# EAGLE library part SX1257 (library LoRa Gateway)
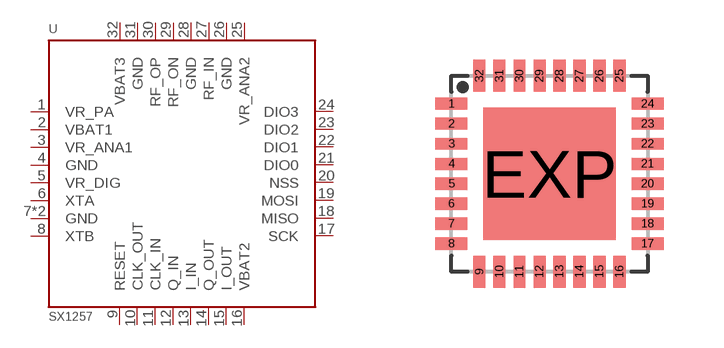
[diagram p6: symbol with the pads of QFN32; footprint QFN32]

Designator prefix U

## SX1257  [QFN32]
1  VR_PA
2  VBAT1
3  VR_ANA1
4  GND
5  VR_DIG
6  XTA
7  GND
8  XTB
9  RESET
10  CLK_OUT
11  CLK_IN
12  Q_IN
13  I_IN
14  Q_OUT
15  I_OUT
16  VBAT2
17  SCK
18  MISO
19  MOSI
20  NSS
21  DIO0
22  DIO1
23  DIO2
24  DIO3
25  VR_ANA2
26  GND
27  RF_IN
28  GND
29  RF_ON
30  RF_OP
31  GND
32  VBAT3
EXP  GND

## Footprint QFN32 (pad centres in mm)
QFN 32 5 x 5 mm Source: http://datasheets.maxim-ic.com/en/ds/MAX7042.pdf
smd 0.8 x 0.3: 1 -2.45,1.75; 2 -2.45,1.25; 3 -2.45,0.75; 4 -2.45,0.25; 5 -2.45,-0.25; 6 -2.45,-0.75; 7 -2.45,-1.25; 8 -2.45,-1.75; 17 2.45,-1.75; 18 2.45,-1.25; 19 2.45,-0.75; 20 2.45,-0.25; 21 2.45,0.25; 22 2.45,0.75; 23 2.45,1.25; 24 2.45,1.75
smd 0.3 x 0.8: 9 -1.75,-2.45; 10 -1.25,-2.45; 11 -0.75,-2.45; 12 -0.25,-2.45; 13 0.25,-2.45; 14 0.75,-2.45; 15 1.25,-2.45; 16 1.75,-2.45; 25 1.75,2.45; 26 1.25,2.45; 27 0.75,2.45; 28 0.25,2.45; 29 -0.25,2.45; 30 -0.75,2.45; 31 -1.25,2.45; 32 -1.75,2.45
smd 3.3 x 3.3: EXP 0,0